# Altium schematic symbol library VCC_SYMBOL.SchLib: 1 symbol
Pins are listed as number, name and electrical type; pins without a type are passive.

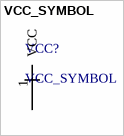
[diagram p0: symbol VCC_SYMBOL]

## VCC_SYMBOL
designator VCC?
VCC power symbol
pins: 1 VCC (power)